# EAGLE library part 2450FB15L0001 (library soumilcustom)
BALUN Filter Package: 0805 Balun Filter for AT86RF230 Part: 2450FB15L0001
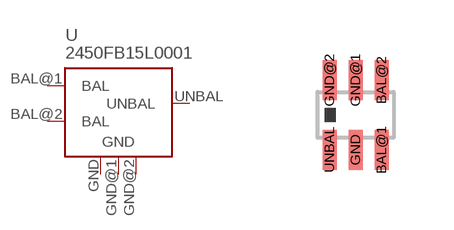
[diagram p9: symbol with the pads of BALUN_0805; footprint BALUN_0805]

Designator prefix -

## 2450FB15L0001  [BALUN_0805]
BAL@1  BAL  pas
BAL@2  BAL  pas
GND  GND  pas
GND@1  GND  pas
GND@2  GND  pas
UNBAL  UNBAL  pas

## Footprint BALUN_0805 (pad centres in mm)
smd 0.35 x 1: BAL@1 0.65,-0.875; BAL@2 0.65,0.875; GND 0,-0.875; GND@1 0,0.875; GND@2 -0.65,0.875; UNBAL -0.65,-0.875